# EAGLE library part LM22674 (library counter)
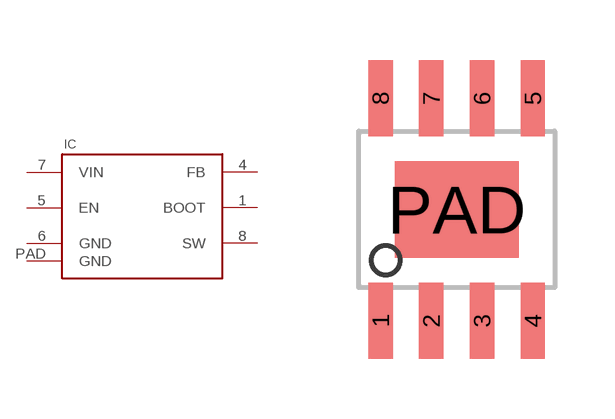
[diagram p4: symbol with the pads of LM22674; footprint LM22674]

Designator prefix IC

## LM22674  [LM22674]
1  BOOT
4  FB
5  EN
6  GND
7  VIN
8  SW
PAD  GND

## Footprint LM22674 (pad centres in mm)
smd 0.61 x 1.905: 1 -1.905,-2.781; 2 -0.635,-2.781; 3 0.635,-2.781; 4 1.905,-2.781; 5 1.905,2.781; 6 0.635,2.781; 7 -0.635,2.781; 8 -1.905,2.781
smd 3.099 x 2.413: PAD 0,0